# EAGLE library part IR2D20U (library sharp)
24-ch LED Driver IC Source: http://document.sharpsma.com/files/IR2D20U.pdf
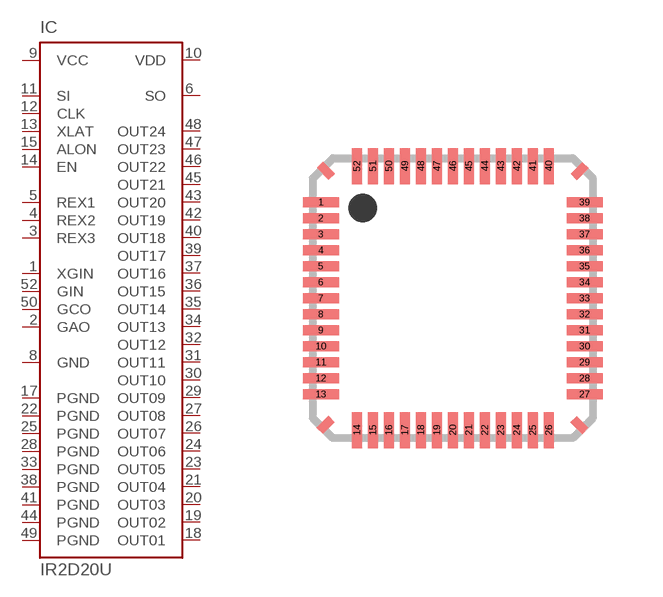
[diagram p3: symbol with the pads of HQFN052; footprint HQFN052]

Designator prefix IC

## IR2D20U (OC_FARNELL: unknown; OC_NEWARK: unknown)  [HQFN052]
1  XGIN  in
2  GAO  in
3  REX3  in
4  REX2  in
5  REX1  in
6  SO  out
8  GND  pwr
9  VCC  pwr
10  VDD  pwr
11  SI  in
12  CLK  in
13  XLAT  in
14  EN  in
15  ALON  in
17  PGND  pwr
18  OUT01  out
19  OUT02  out
20  OUT03  out
21  OUT04  out
22  PGND  pwr
23  OUT05  out
24  OUT06  out
25  PGND  pwr
26  OUT07  out
27  OUT08  out
28  PGND  pwr
29  OUT09  out
30  OUT10  out
31  OUT11  out
32  OUT12  out
33  PGND  pwr
34  OUT13  out
35  OUT14  out
36  OUT15  out
37  OUT16  out
38  PGND  pwr
39  OUT17  out
40  OUT18  out
41  PGND  pwr
42  OUT19  out
43  OUT20  out
44  PGND  pwr
45  OUT21  out
46  OUT22  out
47  OUT23  out
48  OUT24  out
49  PGND  pwr
50  GCO  in
52  GIN  in

## Footprint HQFN052 (pad centres in mm)
HQFN052-P-0707 Source: http://document.sharpsma.com/files/IR2D20U.pdf
smd 0.9 x 0.25: 1 -3.3,2.4; 2 -3.3,2; 3 -3.3,1.6; 4 -3.3,1.2; 5 -3.3,0.8; 6 -3.3,0.4; 7 -3.3,0; 8 -3.3,-0.4; 9 -3.3,-0.8; 10 -3.3,-1.2; 11 -3.3,-1.6; 12 -3.3,-2; 13 -3.3,-2.4; 27 3.3,-2.4; 28 3.3,-2; 29 3.3,-1.6; 30 3.3,-1.2; 31 3.3,-0.8; 32 3.3,-0.4; 33 3.3,0; 34 3.3,0.4; 35 3.3,0.8; 36 3.3,1.2; 37 3.3,1.6; 38 3.3,2; 39 3.3,2.4
smd 0.25 x 0.9: 14 -2.4,-3.3; 15 -2,-3.3; 16 -1.6,-3.3; 17 -1.2,-3.3; 18 -0.8,-3.3; 19 -0.4,-3.3; 20 0,-3.3; 21 0.4,-3.3; 22 0.8,-3.3; 23 1.2,-3.3; 24 1.6,-3.3; 25 2,-3.3; 26 2.4,-3.3; 40 2.4,3.3; 41 2,3.3; 42 1.6,3.3; 43 1.2,3.3; 44 0.8,3.3; 45 0.4,3.3; 46 0,3.3; 47 -0.4,3.3; 48 -0.8,3.3; 49 -1.2,3.3; 50 -1.6,3.3; 51 -2,3.3; 52 -2.4,3.3